# EAGLE library part MAGJACK (library magjack)
Magjack RJ45: 08B0-1X1T-06-F mcgregor@blackmesaeast.com.pl Magjack RJ45: L829-1X1T-91 huszty.gergo@digitaltrip.hu
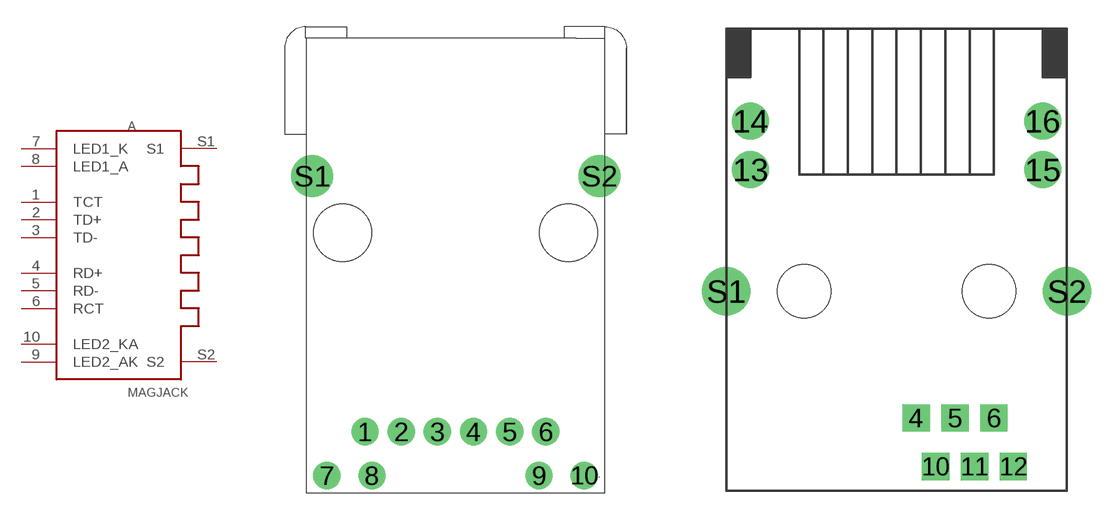
[diagram p0: symbol with the pads of 08B0-1X1T-06-F; footprints 08B0-1X1T-06-F, L829-1X1T-91]

Designator prefix A

## MAGJACK  [08B0-1X1T-06-F]
1  TCT
2  TD+
3  TD-
4  RD+
5  RD-
6  RCT
7  LED1_K
8  LED1_A
9  LED2_AK
10  LED2_KA
S1  S1
S2  S2

## MAGJACK_2  [L829-1X1T-91]
4  RD+
5  RCT
6  RD-
10  TD-
11  TCT
12  TD+
13  LED1_K
14  LED1_A
15  LED2_KA
16  LED2_AK
S1  S1
S2  S2

## Footprint 08B0-1X1T-06-F (pad centres in mm)
drill 1.02 round: 1 2.15,2.46; 2 4.18,2.46; 3 6.21,2.46; 4 8.24,2.46; 5 10.27,2.46; 6 12.3,2.46; 7 0,0; 8 2.54,0; 9 11.91,0; 10 14.45,0
drill 1.57 round: S1 -0.83,16.808; S2 15.3,16.809
hole 3.25 at 0.88,13.63
hole 3.25 at 13.58,13.63

## Footprint L829-1X1T-91 (pad centres in mm)
drill 0.5 pad 1.422 square: 4 9.906,3.81; 5 11.938,3.81; 6 13.97,3.81; 10 10.922,1.27; 11 12.954,1.27; 12 14.986,1.27
drill 0.5 pad 1.93 round: 13 1.27,16.764; 14 1.27,19.304; 15 16.51,16.764; 16 16.51,19.304
drill 0.5 pad 2.54 round: S1 0,10.414; S2 17.78,10.414
hole 2.8 at 4.064,10.414
hole 2.8 at 13.716,10.414